# EAGLE library part ARDUINO-UNO (library FansElectronics-Arduino)
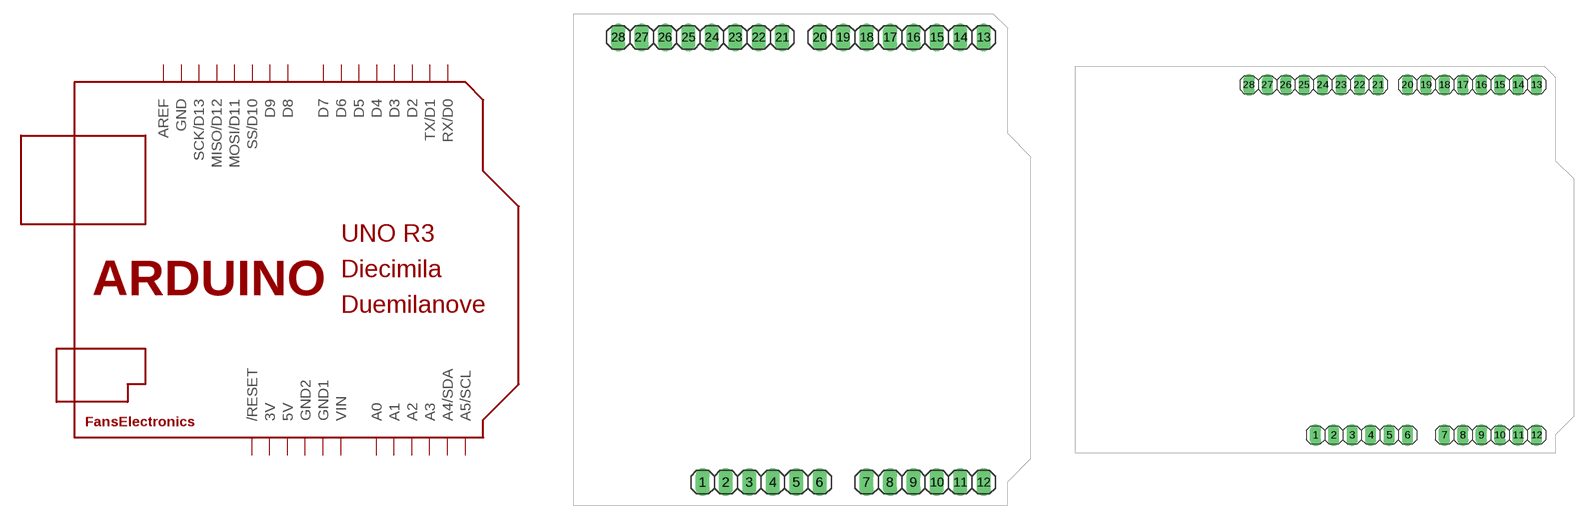
[diagram p0: symbol with the pads of UNO-SHIELD; footprints UNO-SHIELD, ARDUINO-UNO2]

Designator prefix ARDUINO

## ARDUINO-UNO-SHIELD  [UNO-SHIELD]
1  /RESET
2  3V  pwr
3  5V  pwr
4  GND2  pwr
5  GND1  pwr
6  VIN  pwr
7  A0
8  A1
9  A2
10  A3
11  A4/SDA
12  A5/SCL
13  RX/D0
14  TX/D1
15  D2
16  D3
17  D4
18  D5
19  D6
20  D7
21  D8
22  D9
23  SS/D10
24  MOSI/D11
25  MISO/D12
26  SCK/D13
27  GND  pwr
28  AREF

## ARDUINO-UNO-NOHOLE  [ARDUINO-UNO2]
Pads as for UNO-SHIELD

## ARDUINO-UNO  [ARDUINO-UNO]
Pads as for UNO-SHIELD

## Footprint UNO-SHIELD (pad centres in mm)
drill 1.016 long: 1 13.97,2.54; 2 16.51,2.54; 3 19.05,2.54; 4 21.59,2.54; 5 24.13,2.54; 6 26.67,2.54; 7 31.75,2.54; 8 34.29,2.54; 9 36.83,2.54; 10 39.37,2.54; 11 41.91,2.54; 12 44.45,2.54; 13 44.45,50.8; 14 41.91,50.8; 15 39.37,50.8; 16 36.83,50.8; 17 34.29,50.8; 18 31.75,50.8; 19 29.21,50.8; 20 26.67,50.8; 21 22.606,50.8; 22 20.066,50.8; 23 17.526,50.8; 24 14.986,50.8; 25 12.446,50.8; 26 9.906,50.8; 27 7.366,50.8; 28 4.826,50.8

## Footprint ARDUINO-UNO2 (pad centres in mm)
drill 1.016 long: 1 33.02,2.54; 2 35.56,2.54; 3 38.1,2.54; 4 40.64,2.54; 5 43.18,2.54; 6 45.72,2.54; 7 50.8,2.54; 8 53.34,2.54; 9 55.88,2.54; 10 58.42,2.54; 11 60.96,2.54; 12 63.5,2.54; 13 63.5,50.8; 14 60.96,50.8; 15 58.42,50.8; 16 55.88,50.8; 17 53.34,50.8; 18 50.8,50.8; 19 48.26,50.8; 20 45.72,50.8; 21 41.656,50.8; 22 39.116,50.8; 23 36.576,50.8; 24 34.036,50.8; 25 31.496,50.8; 26 28.956,50.8; 27 26.416,50.8; 28 23.876,50.8

## Footprint ARDUINO-UNO (pad centres in mm)
drill 1.016 long: 1 33.02,2.54; 2 35.56,2.54; 3 38.1,2.54; 4 40.64,2.54; 5 43.18,2.54; 6 45.72,2.54; 7 50.8,2.54; 8 53.34,2.54; 9 55.88,2.54; 10 58.42,2.54; 11 60.96,2.54; 12 63.5,2.54; 13 63.5,50.8; 14 60.96,50.8; 15 58.42,50.8; 16 55.88,50.8; 17 53.34,50.8; 18 50.8,50.8; 19 48.26,50.8; 20 45.72,50.8; 21 41.656,50.8; 22 39.116,50.8; 23 36.576,50.8; 24 34.036,50.8; 25 31.496,50.8; 26 28.956,50.8; 27 26.416,50.8; 28 23.876,50.8
hole 3.2 at 15.24,50.8
hole 3.2 at 66.04,35.56
hole 3.2 at 66.04,7.62
hole 3.2 at 12.7,3.175